# Altium schematic symbol library Led Red 0805.Schlib: 1 symbol
Pins are listed as number, name and electrical type; pins without a type are passive.

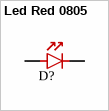
[diagram p0: symbol Led Red 0805]

## Led Red 0805
designator D?, comment Led Red  (value not drawn)
LCSC Part #: C84256
footprint CH0805LG
pins: 1, 2